# Altium footprint library SW_BUTT-2.PcbLib: 1 footprints
Each footprint in its own frame and in the unit in brackets; x right, y up, seen from the top. Pads: shape width x height; smd on the part's side, far side on the other; paste and mask are expansions set on the pad; w line width, h text height; cw(c..) or ccw(c..) is an arc to the next point about the centre after c.
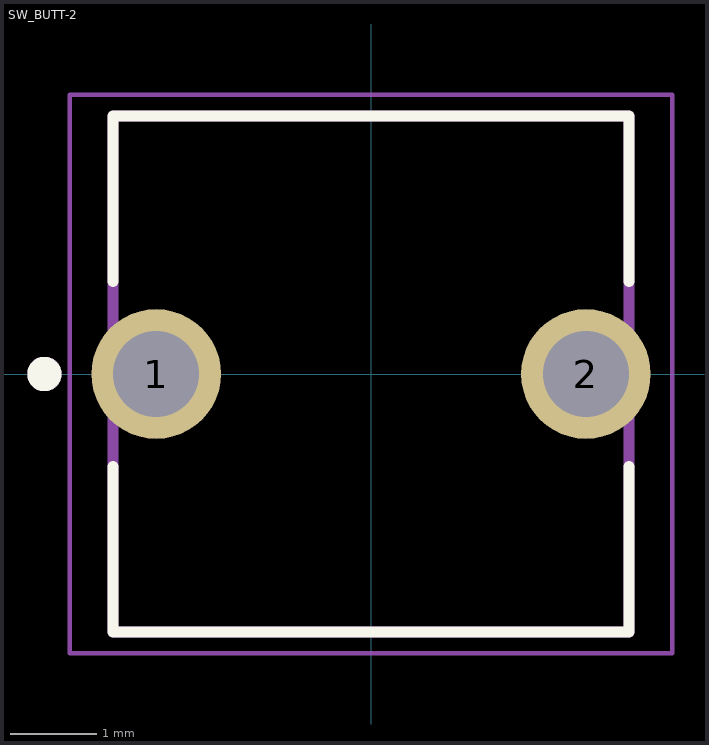
[diagram p0: the footprint, top view; thin cyan lines are the x and y axes]

## SW_BUTT-2 [mm]
height 9.5
pads (2):
  round 1.508 hole 1 mask+0.102: 1(-2.5,0) 2(2.5,0)
Top Overlay:
  circle w0.2: c-3.8,0 r0.1
  lines w0.127: -3,-1.075 -3,-3 3,-3 3,-1.075 ; -3,1.075 -3,3 3,3 3,1.075
Assembly Top:
  circle w0.2: c-3.8,0 r0.1
  lines w0.127: -3,-3 3,-3 3,3 -3,3 -3,-3
  text "Check the physical device before using the layout." at -3.2,-6.41 h0.3
  text "Footprint dimensions taken from a different datasheet." at -3.2,-5.8 h0.3
Courtyard Top:
  lines w0.05: -3.504,-3.25 -3.504,3.25 3.504,3.25 3.504,-3.25 -3.504,-3.25
3D body "step_temp.STEP": height 5.1, standoff -4, extent -3,-3 3,3